# EAGLE library part TE-6116173 (library TE-5-2337992-8-MAGJACK)
RJ45 Jack - Shielded, two LEDs Variants: -1 LED1=Green, LED2=Yellow -4 LED1=Yellow, LED2=Green -5 LED1=Green, LED2=Green
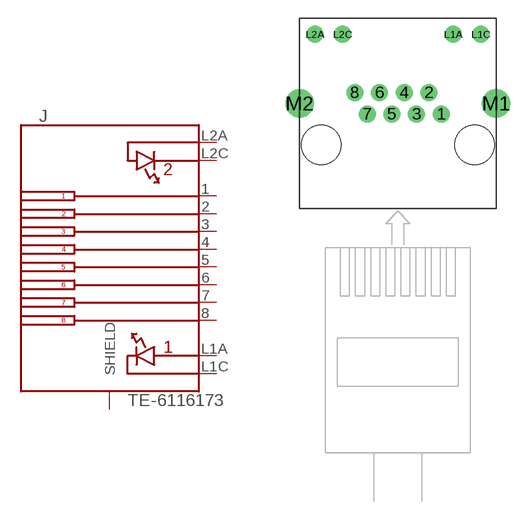
[diagram p1: symbol with the pads of TE-6116173-RJ45; footprint TE-6116173-RJ45]

Designator prefix J

## TE-6116173-1 (MF: TE; MPN: 6116173-1), TE-6116173-4 (MF: TE; MPN: 6116173-4), TE-6116173-5 (MF: TE; MPN: 6116173-5)  [TE-6116173-RJ45]
1  1
2  2
3  3
4  4
5  5
6  6
7  7
8  8
L1A  L1A
L1C  L1C
L2A  L2A
L2C  L2C
M1  SHIELD
M2  SHIELD

## Footprint TE-6116173-RJ45 (pad centres in mm)
drill 0.9: 1 3.58,2.54; 2 2.56,4.32; 3 1.54,2.54; 4 0.52,4.32; 5 -0.5,2.54; 6 -1.52,4.32; 7 -2.54,2.54; 8 -3.56,4.32; L1A 4.57,9.14; L1C 6.86,9.14; L2A -6.86,9.14; L2C -4.57,9.14
drill 1.57: M1 8.13,3.43; M2 -8.13,3.43
hole 3.25 at 6.35,0
hole 3.25 at -6.35,0